# Altium footprint library BR-3.PcbLib: 1 footprints
Each footprint in its own frame and in the unit in brackets; x right, y up, seen from the top. Pads: shape width x height; smd on the part's side, far side on the other; paste and mask are expansions set on the pad; w line width, h text height; cw(c..) or ccw(c..) is an arc to the next point about the centre after c.
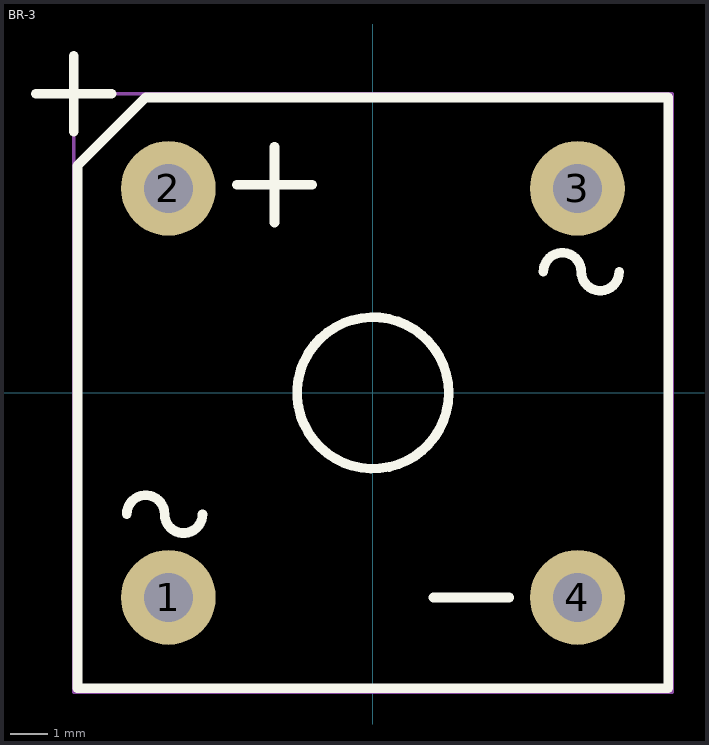
[diagram p0: the footprint, top view; thin cyan lines are the x and y axes]

## BR-3 [mm]
pads (4):
  round 2.5 hole 1.3: 1(-5.4,-5.4) 2(-5.4,5.4) 3(5.4,5.4) 4(5.4,-5.4)
Top Overlay:
  circle w0.254: c0,0 r2
  lines w0.254: -8.9,7.9 -6.9,7.9 ; -7.9,6.9 -7.9,8.9 ; -6.5,-3.2 cw(c-6,-3.2) -5.5,-3.2 ccw(c-5,-3.2) -4.5,-3.2 ; -3.6,5.5 -1.6,5.5 ; -2.6,4.5 -2.6,6.5 ; 1.6,-5.4 3.6,-5.4 ; 4.5,3.2 cw(c5,3.2) 5.5,3.2 ccw(c6,3.2) 6.5,3.2 ; -7.8,-7.8 7.8,-7.8 7.8,7.8 -6,7.8 -7.8,6 -7.8,-7.8
Mechanical 13:
  lines w0.1: -7.9,-7.9 7.9,-7.9 7.9,7.9 -7.9,7.9 -7.9,-7.9